# EAGLE library part LM3488 (library texas-instruments)
SWITCHING SEPIC REGULATOR
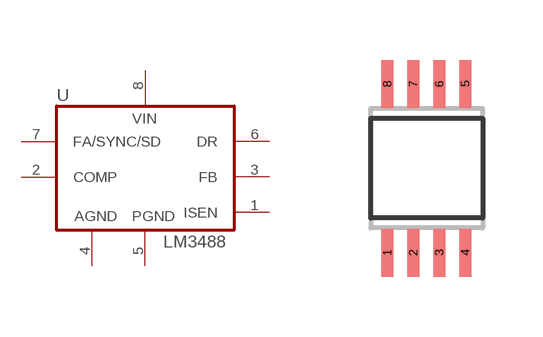
[diagram p16: symbol with the pads of MSOP08; footprint MSOP08]

Designator prefix U

## LM3488 (P1I: o)  [MSOP08]
1  ISEN  in
2  COMP  in
3  FB  in
4  AGND  pwr
5  PGND  pwr
6  DR  out
7  FA/SYNC/SD  in
8  VIN  pwr

## Footprint MSOP08 (pad centres in mm)
Mini Small Outline Package
smd 0.3 x 1.2: 1 -0.976,-2.113; 2 -0.326,-2.113; 3 0.324,-2.113; 4 0.974,-2.113; 5 0.974,2.112; 6 0.324,2.112; 7 -0.326,2.112; 8 -0.976,2.112